# Altium integrated library ACDC.IntLib: 4 symbols
Pins are listed as number, name and electrical type; pins without a type are passive.

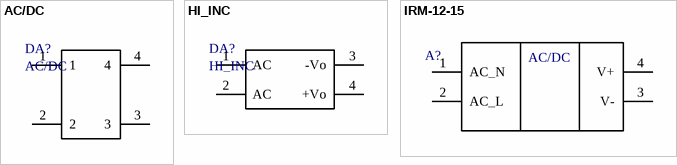
[diagram p0: symbols AC/DC to IRM-12-15]

## AC/DC
designator DA?
footprint AC/DC
pins: 1, 2, 3, 4

## HI_INC
designator DA?
footprint HI_LINC
pins: 1 AC, 2 AC, 3 -Vo, 4 +Vo

## IRM-12-15
designator A?, comment IRM-12-12MEAN WELL  (value not drawn)
Rem: *; Package: *; Value: *; Tolerance: *; Power/Voltage: *; TKE: *; ManufacturerPartNumber: IRM-12-12; Manufacturer: MEAN WELL; Quantity: *; Примечание: *
footprint IRM-15-12
pins: 1 AC_N, 2 AC_L, 3 V-, 4 V+
text: AC/DC

## РЫБА_1
designator A?, comment **  (value not drawn)
Rem: *; Package: *; Value: *; Tolerance: *; Power/Voltage: *; TKE: *; ManufacturerPartNumber: *; Manufacturer: *; Quantity: *; Примечание: *